# Altium footprint library AQFlow_PCB.PcbLib: 15 footprints
Each footprint in its own frame and in the unit in brackets; x right, y up, seen from the top. Pads: shape width x height; smd on the part's side, far side on the other; paste and mask are expansions set on the pad; w line width, h text height; cw(c..) or ccw(c..) is an arc to the next point about the centre after c.
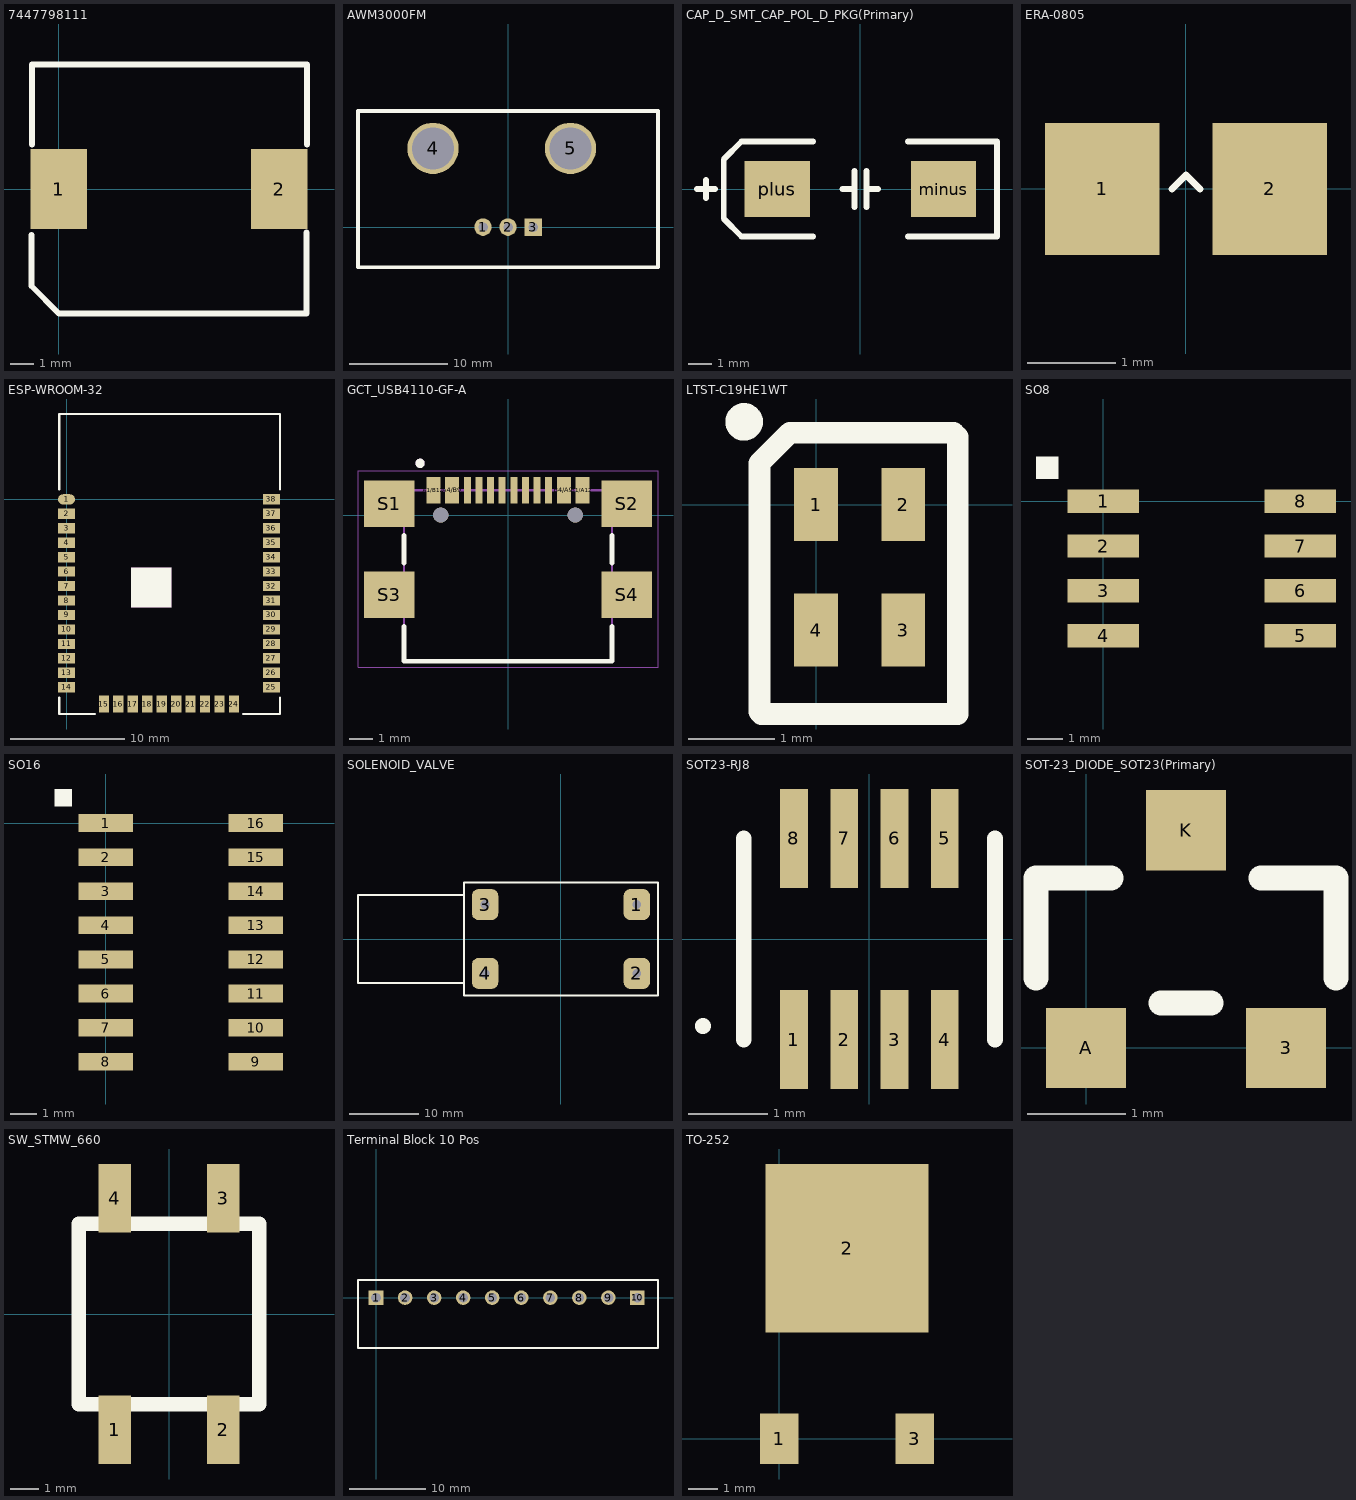
[diagram p0: the footprints below, top view; thin cyan lines are the x and y axes]

## 7447798111 [mm] "Inductor for 10.5V line"
pads (2):
  rect 2.4x3.4 smd: 1(0,0) 2(9.398,0)
Top Overlay:
  lines w0.254: -1.168,-1.956 -1.168,-4.14 0,-5.309 7.061,-5.309 10.363,-5.309 10.566,-5.309 10.566,-1.854 ; -1.143,1.905 -1.143,5.309 10.592,5.309 10.592,1.905

## AWM3000FM [mil]
pads (5):
  round 70 hole 38: 1(-100,0) 2(0,0)
  rect 70x70 hole 38: 3(100,0)
  round 205 hole 167: 4(-300,315) 5(250,315)
Top Overlay:
  lines w15: -600,-160 600,-160 600,465 -600,465 -600,-160

## CAP_D_SMT_CAP_POL_D_PKG(Primary) [mil]
pads (2):
  rect 110x95 smd: minus(140,0) plus(-140,0)
Top Overlay:
  lines w10: -275,0 -245,0 ; -260,-15 -260,15 ; -80,-80 -200,-80 -230,-50 -230,50 -200,80 -80,80 ; -30,0 -10,0 ; -10,-30 -10,30 ; 10,-30 10,30 ; 10,0 30,0 ; 80,-80 230,-80 230,80 80,80

## ERA-0805 [mm]
pads (2):
  rect 1.3x1.5 smd: 1(-0.95,0) 2(0.95,0)
Top Overlay:
  lines w0.076: -0.159,0 0,0.159 0.159,0

## ESP-WROOM-32 [mm]
pads (38):
  oval 1.5x0.9 smd: 1(0,0)
  rect 1.5x0.9 smd: 2(0,-1.27) 3(0,-2.54) 4(0,-3.81) 5(0,-5.08) 6(0,-6.35) 7(0,-7.62) 8(0,-8.89) 9(0,-10.16) 10(0,-11.43) 11(0,-12.7) 12(0,-13.97) 13(0,-15.24) 14(0,-16.51) 25(18,-16.51) 26(18,-15.24) 27(18,-13.97) 28(18,-12.7) 29(18,-11.43) 30(18,-10.16) 31(18,-8.89) 32(18,-7.62) 33(18,-6.35) 34(18,-5.08) 35(18,-3.81) 36(18,-2.54) 37(18,-1.27) 38(18,0)
  rect 0.9x1.5 smd: 15(3.28,-18) 16(4.55,-18) 17(5.82,-18) 18(7.09,-18) 19(8.36,-18) 20(9.63,-18) 21(10.9,-18) 22(12.17,-18) 23(13.44,-18) 24(14.71,-18)
Top Overlay:
  lines w0.2: -0.65,-17.41 -0.65,-18.86 2.5,-18.86 ; -0.65,0.9 -0.65,7.5 18.75,7.5 18.75,0.9 ; 15.494,-18.86 18.75,-18.86 18.75,-17.41
Top Overlay keep-out:
  region: 5.7,-6 9.2,-6 9.2,-9.5 5.7,-9.5

## GCT_USB4110-GF-A [mm]
pads (18):
  rect 0.6x1.15 smd: A1/B12(-3.2,1.075) A4/B9(-2.4,1.075) B1/A12(3.2,1.075) B4/A9(2.4,1.075)
  rect 0.3x1.15 smd: A5(-1.25,1.075) A6(-0.25,1.075) A7(0.25,1.075) A8(1.25,1.075) B5(1.75,1.075) B6(0.75,1.075) B7(-0.75,1.075) B8(-1.75,1.075)
  rect 2.18x2 smd: S1(-5.11,0.5) S2(5.11,0.5) S3(-5.11,-3.43) S4(5.11,-3.43)
  round 0.65 hole 0.65 unplated: ""(-2.89,0) ""(2.89,0)
Top Overlay:
  circle w0.2: c-3.78,2.23 r0.1
  lines w0.2: -4.47,-4.79 -4.47,-6.28 4.47,-6.28 4.47,-4.79 ; -4.47,-2.07 -4.47,-0.86 ; 4.47,-2.07 4.47,-0.86
Mechanical 13:
  circle w0.2: c-3.78,2.23 r0.1
  lines w0.1: -4.47,-6.28 4.47,-6.28 4.47,1.07 -4.47,1.07 -4.47,-6.28
Mechanical 15:
  lines w0.05: -6.45,-6.53 -6.45,1.9 6.45,1.9 6.45,-6.53 -6.45,-6.53

## LTST-C19HE1WT [mil] "LED RGB CHIP SMD"
height 17.72
pads (4):
  rect 20x33.5 smd: 1(0,0) 2(40,0) 3(40,-57.5) 4(0,-57.5)
Top Overlay:
  circle w10: c-33,38 r3.61
  lines w10: -26,-95 -25,-96 65,-96 65,-84 65,31 63,33 -12,33 -26,19 -26,-95

## SO8 [mil]
pads (8):
  rect 80x26 smd: 1(0,0) 2(0,-50) 3(0,-100) 4(0,-150) 5(220,-150) 6(220,-100) 7(220,-50) 8(220,0)
Top Overlay:
  region: -75,25 -50,25 -50,50 -75,50

## SO16 [mil]
pads (16):
  rect 80x26 smd: 1(0,0) 2(0,-50) 3(0,-100) 4(0,-150) 5(0,-200) 6(0,-250) 7(0,-300) 8(0,-350) 9(220,-350) 10(220,-300) 11(220,-250) 12(220,-200) 13(220,-150) 14(220,-100) 15(220,-50) 16(220,0)
Top Overlay:
  region: -75,25 -50,25 -50,50 -75,50

## SOLENOID_VALVE [mil]
pads (4):
  rrect50% 150x175 hole 50: 1(430,195) 2(430,-195) 3(-430,195) 4(-430,-195)
Top Overlay:
  lines w10: -550,-250 -1150,-250 -1150,250 -550,250 ; -550,-320 -550,320 550,320 550,-320 -550,-320
3D body: height 700, standoff 0, extent -1153,-325 551,324

## SOT23-RJ8 [mm]
pads (8):
  rect 0.35x1.25 smd: 1(-0.953,-1.27) 2(-0.318,-1.27) 3(0.318,-1.27) 4(0.953,-1.27) 5(0.953,1.27) 6(0.318,1.27) 7(-0.318,1.27) 8(-0.953,1.27)
Top Overlay:
  circle w0.099: c-2.103,-1.1 r0.051
  lines w0.2: -1.587,-1.27 -1.587,1.27 ; 1.587,-1.27 1.587,1.27

## SOT-23_DIODE_SOT23(Primary) [mil]
pads (3):
  rect 32x32 smd: 3(80,0) A(0,0) K(40,87)
Top Overlay:
  lines w10: -20,28 -20,68 10,68 ; 30,18 50,18 ; 70,68 100,68 100,28

## SW_STMW_660 [mil]
pads (4):
  rect 45x95 smd: 1(-75,-160) 2(75,-160) 3(75,160) 4(-75,160)
Top Overlay:
  lines w20: -125,-125 -125,125 125,125 125,-125 -125,-125

## Terminal Block 10 Pos [mil]
pads (10):
  rect 75x75 hole 50: 1(0,0) 10(1350,0)
  round 75 hole 50: 2(150,0) 3(300,0) 4(450,0) 5(600,0) 6(750,0) 7(900,0) 8(1050,0) 9(1200,0)
Top Overlay:
  lines w10: -93,-261 1456,-261 1456,92 -93,92 -93,-261
3D body "1803358_05.stp": height 113.86, standoff -305.43, extent -96.36,-272.14 1458.36,94

## TO-252 [mil]
pads (3):
  rect 51x67 smd: 1(0,0) 3(180,0)
  rect 217x224 smd: 2(90,253)